# Altium schematic symbol library BOARDS.SchLib: 25 symbols
Pins are listed as number, name and electrical type; pins without a type are passive.

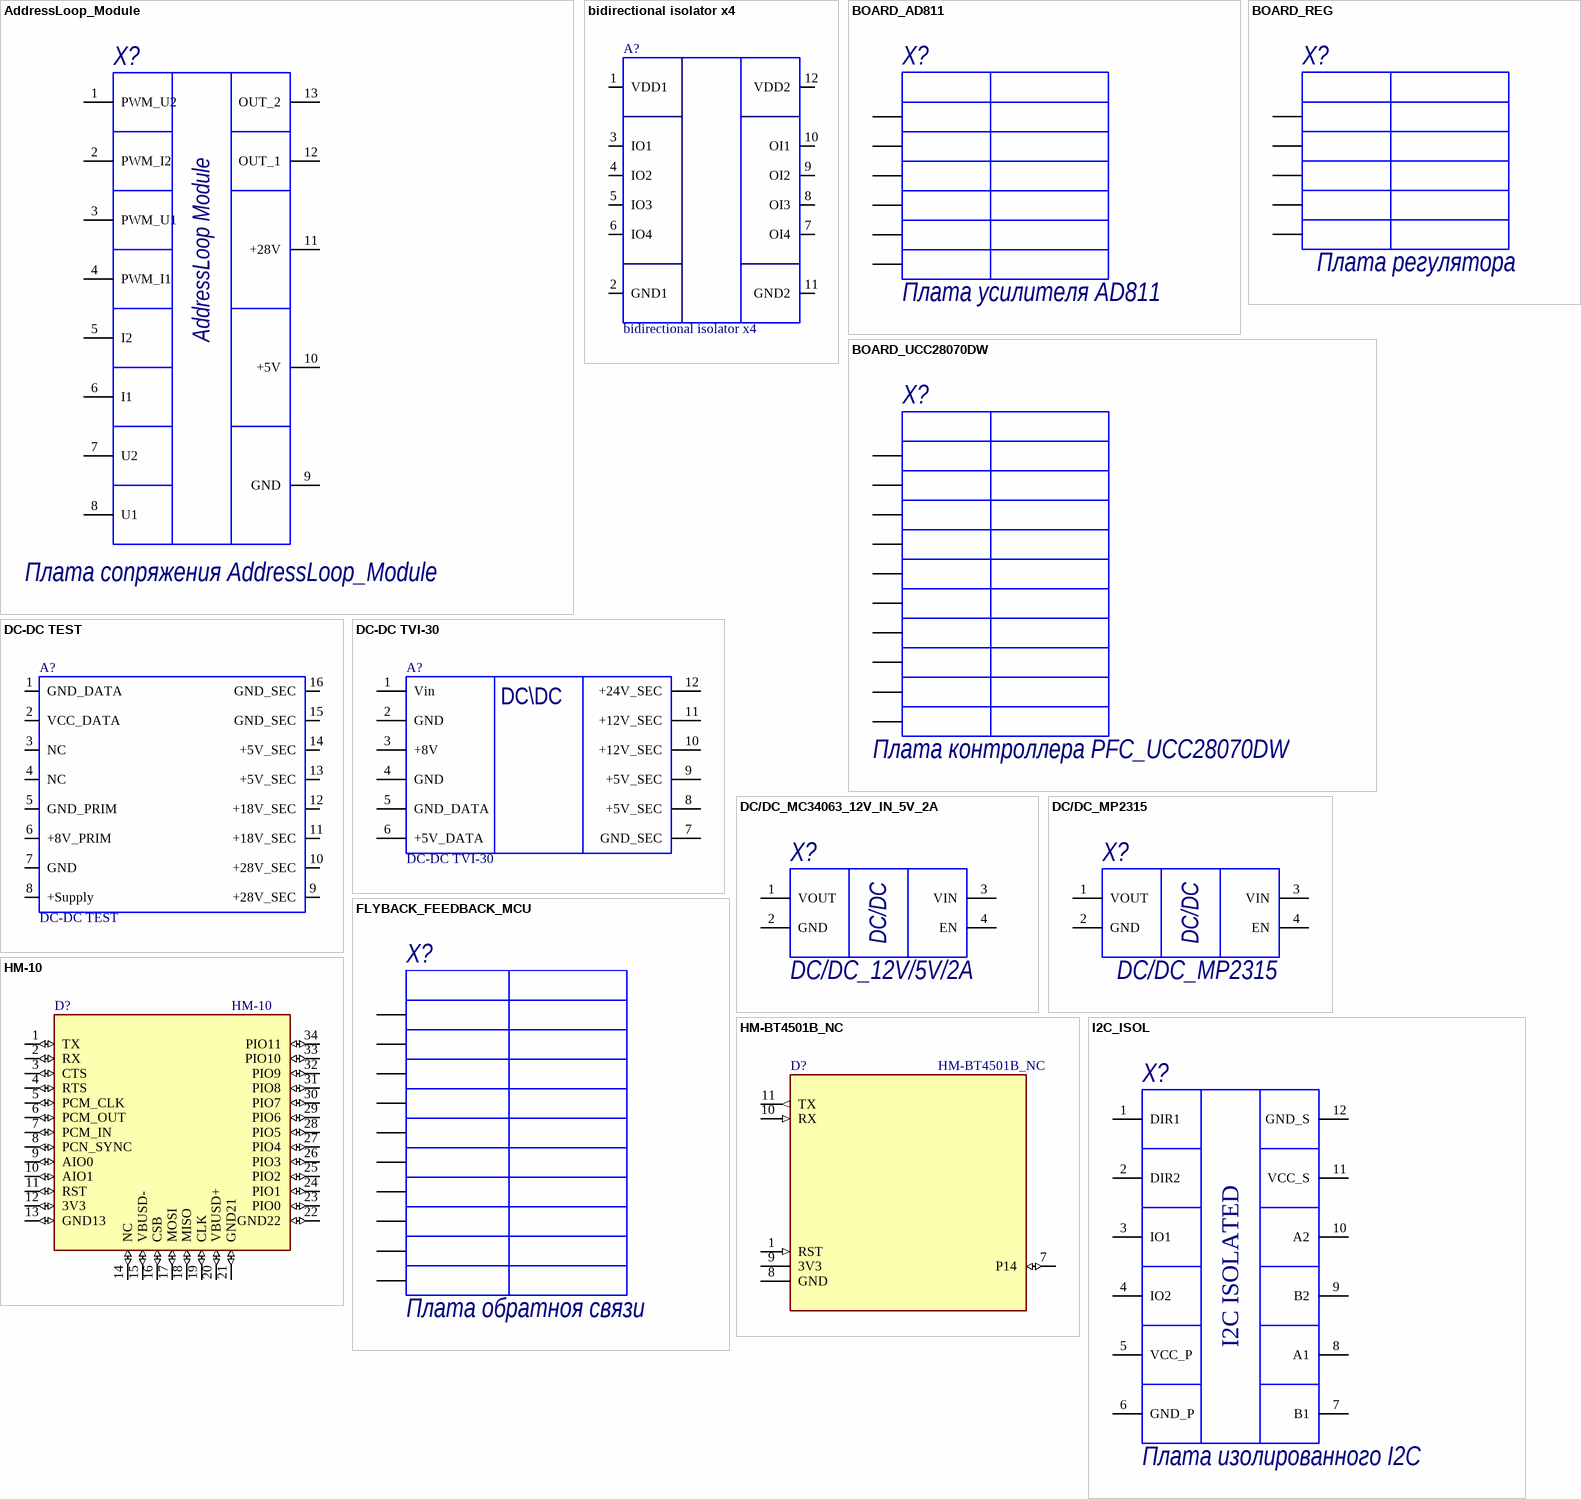
[diagram p0: symbols AddressLoop_Module to I2C_ISOL]

## AddressLoop_Module
designator X?, comment Плата сопряжения AddressLoop_Module
ComponentDescription: Плата сопряжения AddressLoop_Module
footprint AddressLoop_Module (Плата сопряжения)
pins: 1 PWM_U2, 2 PWM_I2, 3 PWM_U1, 4 PWM_I1, 5 I2, 6 I1, 7 U2, 8 U1, 9 GND, 10 +5V, 11 +28V, 12 OUT_1, 13 OUT_2
text: AddressLoop Module

## bidirectional isolator x4
designator A?
ComponentDescription: bidirectional isolator x4
footprint Bidirectional isolator 4
pins: 1 VDD1, 2 GND1, 3 IO1, 4 IO2, 5 IO3, 6 IO4, 7 OI4, 8 OI3, 9 OI2, 10 OI1, 11 GND2, 12 VDD2

## BOARD_AD811
designator X?, comment Плата усилителя AD811
ComponentDescription: Плата усилителя AD811
footprint BOARD_AD811 (Плата сопряжения)
pins: 1, 2, 3, 4, 5, 6

## BOARD_REG
designator X?, comment Плата регулятора
ComponentDescription: Плата регулятора
footprint BOARD_REG (Плата регулятора)
pins: 1, 2, 3, 4, 5

## BOARD_UCC28070DW
designator X?, comment Плата контроллера PFC_UCC28070DW
ComponentDescription: Плата контроллера PFC_UCC28070DW
footprint BOARD_UCC28070DW (Плата сопряжения)
pins: 1, 2, 3, 4, 5, 6, 7, 8, 9, 10

## DC-DC TEST
designator A?
ComponentDescription: DC-DC TEST
footprint DC DC
pins: 1 GND_DATA, 2 VCC_DATA, 3 NC, 4 NC, 5 GND_PRIM, 6 +8V_PRIM, 7 GND, 8 +Supply, 9 +28V_SEC, 10 +28V_SEC, 11 +18V_SEC, 12 +18V_SEC, 13 +5V_SEC, 14 +5V_SEC, 15 GND_SEC, 16 GND_SEC

## DC-DC TVI-30
designator A?
ComponentDescription: DC-DC TVI-30
footprint DC-DC TVI-30
pins: 1 Vin, 2 GND, 3 +8V, 4 GND, 5 GND_DATA, 6 +5V_DATA, 7 GND_SEC, 8 +5V_SEC, 9 +5V_SEC, 10 +12V_SEC, 11 +12V_SEC, 12 +24V_SEC
text: DC\DC

## DC/DC_MC34063_12V_IN_5V_2A
designator X?, comment DC/DC_12V/5V/2A
Плата DC/DC_MP2315; ComponentDescription: DC/DC_12V/5V/2A
footprint DC/DC_MC34063_12V_IN_5V_2A (Плата DC/DC)
pins: 1 VOUT, 2 GND, 3 VIN, 4 EN
text: DC/DC

## DC/DC_MP2315
designator X?
Плата DC/DC_MP2315; ComponentDescription: DC/DC_MP2315
footprint MP2315 (Плата DC/DC)
pins: 1 VOUT, 2 GND, 3 VIN, 4 EN
text: DC/DC

## FLYBACK_FEEDBACK_MCU
designator X?, comment Плата обратноя связи
ComponentDescription: Плата обратноя связи
footprint FLYBACK_FEEDBACK_MCU (Плата сопряжения)
pins: 1, 2, 3, 4, 5, 6, 7, 8, 9, 10

## HM-10
designator D?
Bluetooth 4.0 module with 4pin base board that can support iphone4s or later.; MF: Jinan Huamao Technology; MP: HM-10; Package: Package; Price: None; Availability: Unavailable; Value: *; Check_prices: https://www.snapeda.com/parts/HM-10/Jinan%20Huamao%20Technology/view-part/5661823/?ref=eda; SnapEDA_Link: https://www.snapeda.com/parts/HM-10/Jinan%20Huamao%20Technology/view-part/5661823/?ref=snap
footprint HM-10
pins: 1 TX (io), 2 RX (io), 3 CTS (io), 4 RTS (io), 5 PCM_CLK (io), 6 PCM_OUT (io), 7 PCM_IN (io), 8 PCN_SYNC (io), 9 AIO0 (io), 10 AIO1 (io), 11 RST (io), 12 3V3 (io), 13 GND13 (io), 14 NC (io), 15 VBUSD- (io), 16 CSB (io), 17 MOSI (io), 18 MISO (io), 19 CLK (io), 20 VBUSD+ (io), 21 GND21 (io), 22 GND22 (io), 23 PIO0 (io), 24 PIO1 (io), 25 PIO2 (io), 26 PIO3 (io), 27 PIO4 (io), 28 PIO5 (io), 29 PIO6 (io), 30 PIO7 (io), 31 PIO8 (io), 32 PIO9 (io), 33 PIO10 (io), 34 PIO11 (io)

## HM-BT4501B_NC
designator D?
Bluetooth 4.0 module with 4pin base board that can support iphone4s or later.; MP: HM-10; MF: Jinan Huamao Technology; Package: Package; Price: None; Availability: Unavailable; Value: *; Check_prices: https://www.snapeda.com/parts/HM-10/Jinan%20Huamao%20Technology/view-part/5661823/?ref=eda; SnapEDA_Link: https://www.snapeda.com/parts/HM-10/Jinan%20Huamao%20Technology/view-part/5661823/?ref=snap
footprint HM-BT4501B
pins: 1 RST (in), 7 P14 (io), 8 GND (power), 9 3V3 (power), 10 RX (in), 11 TX (out)

## I2C_ISOL
designator X?, comment Плата изолированного I2C
ComponentDescription: Плата изолированного I2C
footprint I2C_ISOL
pins: 1 DIR1, 2 DIR2, 3 IO1, 4 IO2, 5 VCC_P, 6 GND_P, 7 B1, 8 A1, 9 B2, 10 A2, 11 VCC_S, 12 GND_S
text: I2C ISOLATED

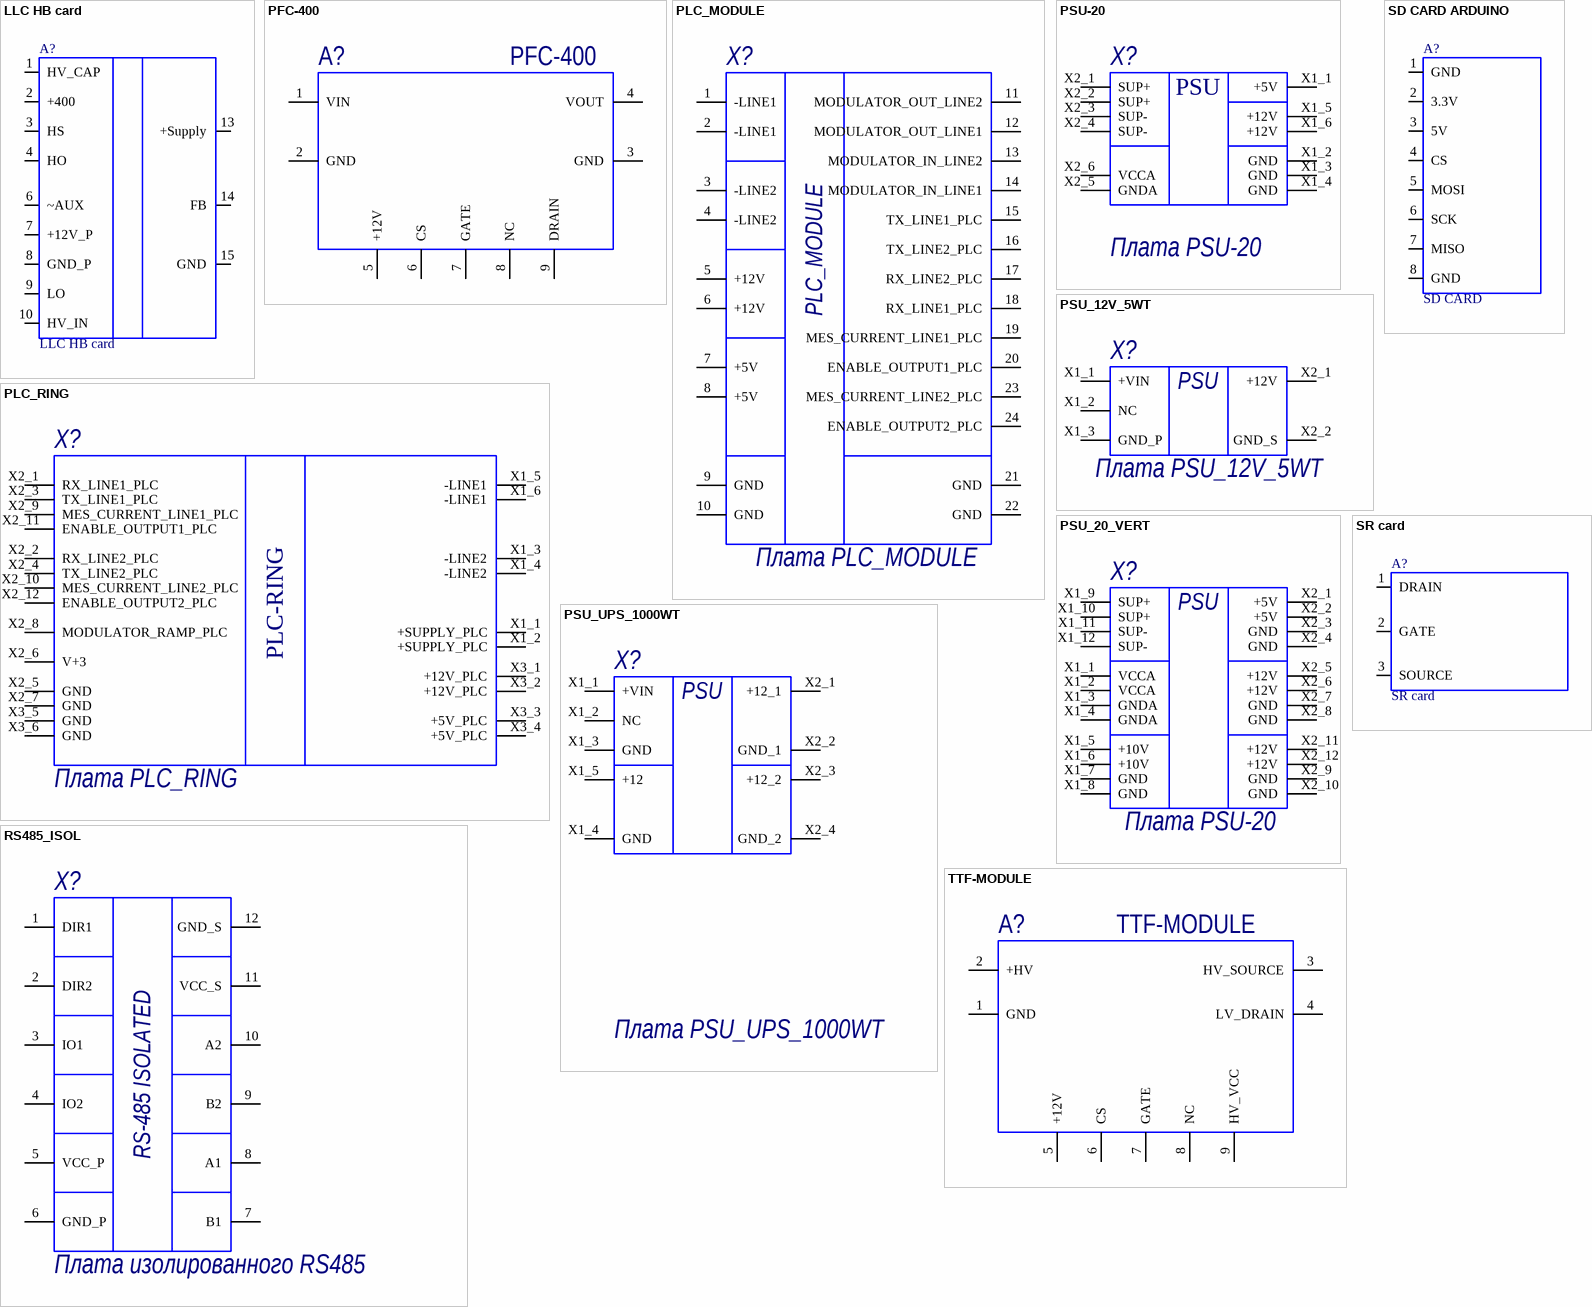
[diagram p1: symbols LLC HB card to TTF-MODULE]

## LLC HB card
designator A?
ComponentDescription: LLC HB card
footprint LLC HB card
pins: 1 HV_CAP, 2 +400, 3 HS, 4 HO, 6 ~AUX, 7 +12V_P, 8 GND_P, 9 LO, 10 HV_IN, 13 +Supply, 14 FB, 15 GND

## PFC-400
designator A?
ComponentDescription: PFC-400
footprint PFC-400
pins: 1 VIN, 2 GND, 3 GND, 4 VOUT, 5 +12V, 6 CS, 7 GATE, 8 NC, 9 DRAIN

## PLC_MODULE
designator X?, comment Плата PLC_MODULE
ComponentDescription: Плата PLC_MODULE
footprint PLC_MODULE (Плата сопряжения)
pins: 1 -LINE1, 2 -LINE1, 3 -LINE2, 4 -LINE2, 5 +12V, 6 +12V, 7 +5V, 8 +5V, 9 GND, 10 GND, 11 MODULATOR_OUT_LINE2, 12 MODULATOR_OUT_LINE1, 13 MODULATOR_IN_LINE2, 14 MODULATOR_IN_LINE1, 15 TX_LINE1_PLC, 16 TX_LINE2_PLC, 17 RX_LINE2_PLC, 18 RX_LINE1_PLC, 19 MES_CURRENT_LINE1_PLC, 20 ENABLE_OUTPUT1_PLC, 21 GND, 22 GND, 23 MES_CURRENT_LINE2_PLC, 24 ENABLE_OUTPUT2_PLC

## PLC_RING
designator X?, comment Плата PLC_RING
ComponentDescription: Плата PLC_RING
footprint PLC_RING
pins: X1_1 +SUPPLY_PLC, X1_2 +SUPPLY_PLC, X1_3 -LINE2, X1_4 -LINE2, X1_5 -LINE1, X1_6 -LINE1, X2_1 RX_LINE1_PLC, X2_2 RX_LINE2_PLC, X2_3 TX_LINE1_PLC, X2_4 TX_LINE2_PLC, X2_5 GND, X2_6 V+3, X2_7 GND, X2_8 MODULATOR_RAMP_PLC, X2_9 MES_CURRENT_LINE1_PLC, X2_10 MES_CURRENT_LINE2_PLC, X2_11 ENABLE_OUTPUT1_PLC, X2_12 ENABLE_OUTPUT2_PLC, X3_1 +12V_PLC, X3_2 +12V_PLC, X3_3 +5V_PLC, X3_4 +5V_PLC, X3_5 GND, X3_6 GND
text: PLC-RING

## PSU-20
designator X?, comment Плата PSU-20
ComponentDescription: Плата PSU-20
footprint PSU-20
pins: X1_1 +5V, X1_2 GND, X1_3 GND, X1_4 GND, X1_5 +12V, X1_6 +12V, X2_1 SUP+, X2_2 SUP+, X2_3 SUP-, X2_4 SUP-, X2_5 GNDA, X2_6 VCCA
text: PSU

## PSU_12V_5WT
designator X?, comment Плата PSU_12V_5WT
Плата источник питания 12В 5Вт; ComponentDescription: Плата PSU_12V_5WT
footprint PSU_12V_5WT (Плата источника питания 12В 5Вт)
pins: X1_1 +VIN, X1_2 NC, X1_3 GND_P, X2_1 +12V, X2_2 GND_S
text: PSU

## PSU_20_VERT
designator X?, comment Плата PSU-20
ComponentDescription: Плата PSU-20
footprint PSU_20_VERT
pins: X1_1 VCCA, X1_2 VCCA, X1_3 GNDA, X1_4 GNDA, X1_5 +10V, X1_6 +10V, X1_7 GND, X1_8 GND, X1_9 SUP+, X1_10 SUP+, X1_11 SUP-, X1_12 SUP-, X2_1 +5V, X2_2 +5V, X2_3 GND, X2_4 GND, X2_5 +12V, X2_6 +12V, X2_7 GND, X2_8 GND, X2_9 GND, X2_10 GND, X2_11 +12V, X2_12 +12V
text: PSU

## PSU_UPS_1000WT
designator X?, comment Плата PSU_UPS_1000WT
Плата источник питания для UPS-1000; ComponentDescription: Плата PSU_UPS_1000WT
footprint RM6_FLYBACK_UPS1000_TNY (Плата сопряжения)
pins: X1_1 +VIN, X1_2 NC, X1_3 GND, X1_4 GND, X1_5 +12, X2_1 +12_1, X2_2 GND_1, X2_3 +12_2, X2_4 GND_2
text: PSU

## RS485_ISOL
designator X?, comment Плата изолированного RS485
ComponentDescription: Плата изолированного RS485
footprint RS485_ISOL
footprint RS485_ISOL_LS
footprint RS485_ISOL_LS_FLIP
footprint RS485_ISOL _VERT
pins: 1 DIR1, 2 DIR2, 3 IO1, 4 IO2, 5 VCC_P, 6 GND_P, 7 B1, 8 A1, 9 B2, 10 A2, 11 VCC_S, 12 GND_S
text: RS-485 ISOLATED

## SD CARD ARDUINO
designator A?, comment SD CARD
ComponentDescription: SD CARD
footprint SD CARD ARDUINO
pins: 1 GND, 2 3.3V, 3 5V, 4 CS, 5 MOSI, 6 SCK, 7 MISO, 8 GND

## SR card
designator A?
ComponentDescription: SR card
footprint SR RECT CARD
pins: 1 DRAIN, 2 GATE, 3 SOURCE

## TTF-MODULE
designator A?
ComponentDescription: TTF-MODULE
footprint TTF-MODULE
pins: 1 GND, 2 +HV, 3 HV_SOURCE, 4 LV_DRAIN, 5 +12V, 6 CS, 7 GATE, 8 NC, 9 HV_VCC